# Altium schematic symbol library Standard-Card-Footprints.SchLib: 8 symbols
Pins are listed as number, name and electrical type; pins without a type are passive.

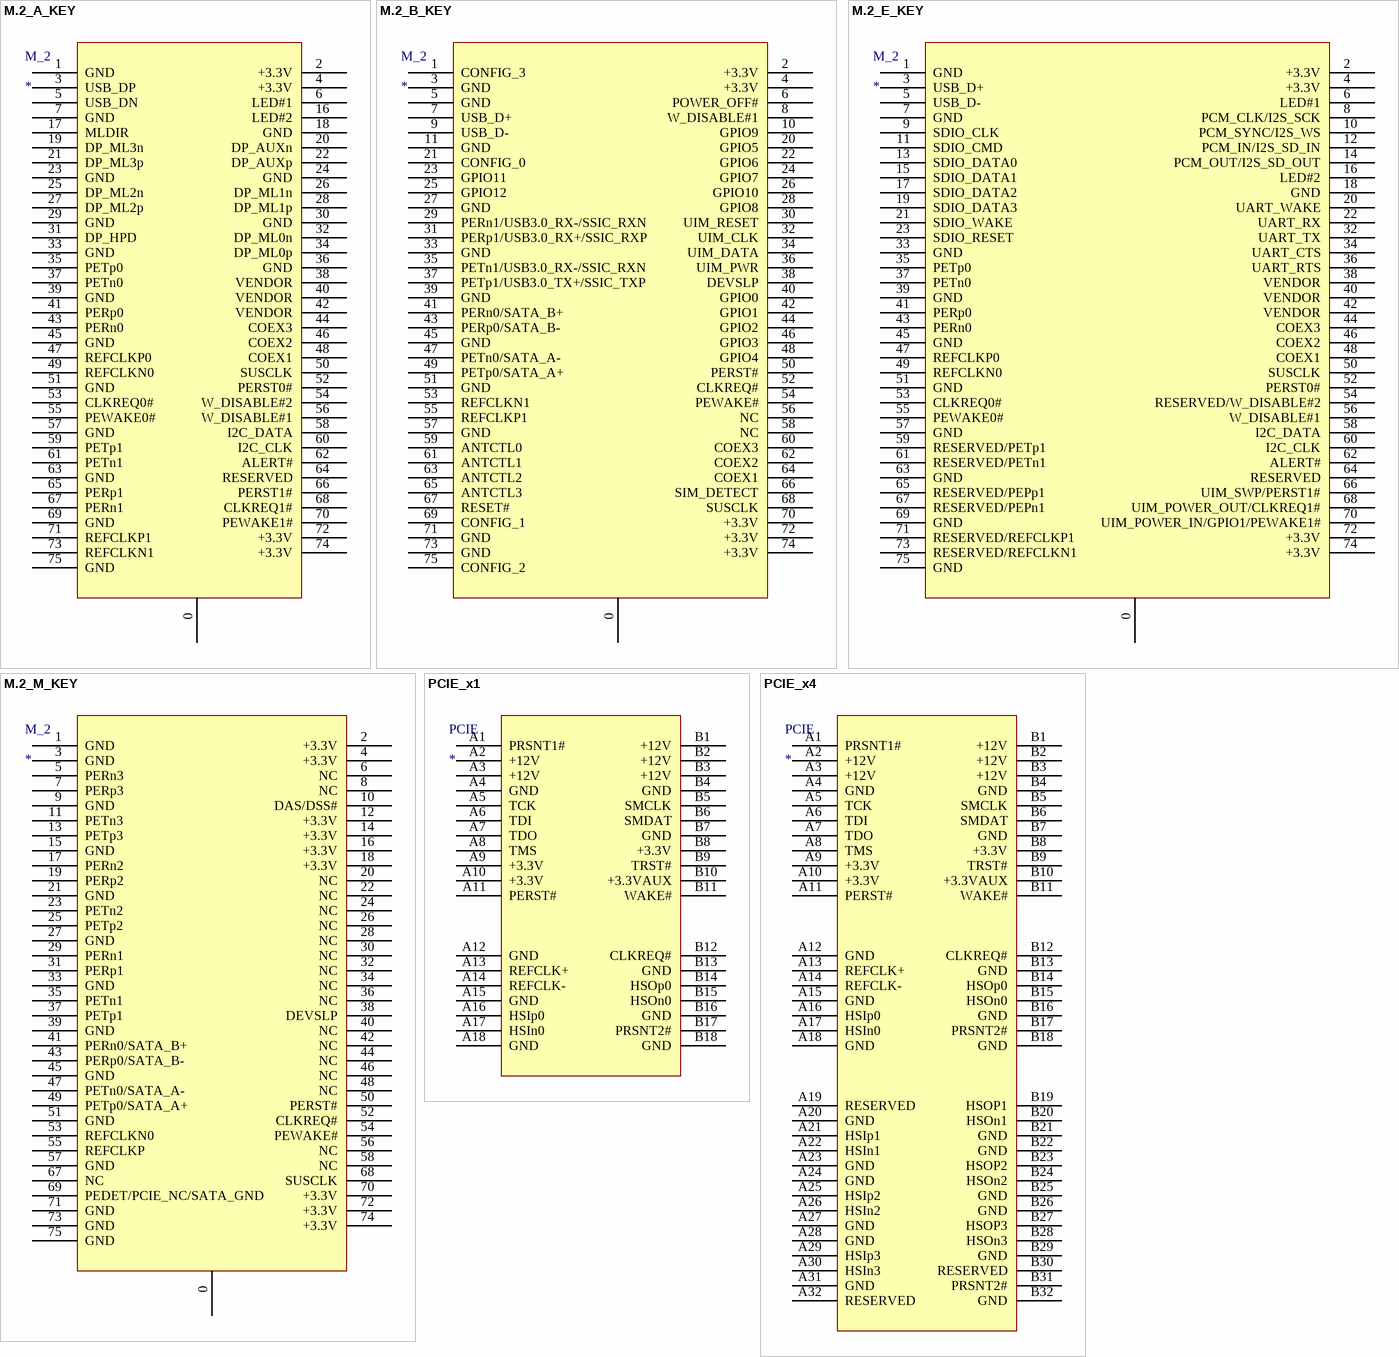
[diagram p0: symbols M.2_A_KEY to PCIE_x4]

## M.2_A_KEY
designator M_2
footprint M.2_A_2230
pins: 0, 1 GND, 2 +3.3V, 3 USB_DP, 4 +3.3V, 5 USB_DN, 6 LED#1, 7 GND, 16 LED#2, 17 MLDIR, 18 GND, 19 DP_ML3n, 20 DP_AUXn, 21 DP_ML3p, 22 DP_AUXp, 23 GND, 24 GND, 25 DP_ML2n, 26 DP_ML1n, 27 DP_ML2p, 28 DP_ML1p, 29 GND, 30 GND, 31 DP_HPD, 32 DP_ML0n, 33 GND, 34 DP_ML0p, 35 PETp0, 36 GND, 37 PETn0, 38 VENDOR, 39 GND, 40 VENDOR, 41 PERp0, 42 VENDOR, 43 PERn0, 44 COEX3, 45 GND, 46 COEX2, 47 REFCLKP0, 48 COEX1, 49 REFCLKN0, 50 SUSCLK, 51 GND, 52 PERST0#, 53 CLKREQ0#, 54 W_DISABLE#2, 55 PEWAKE0#, 56 W_DISABLE#1, 57 GND, 58 I2C_DATA, 59 PETp1, 60 I2C_CLK, 61 PETn1, 62 ALERT#, 63 GND, 64 RESERVED, 65 PERp1, 66 PERST1#, 67 PERn1, 68 CLKREQ1#, 69 GND, 70 PEWAKE1#, 71 REFCLKP1, 72 +3.3V, 73 REFCLKN1, 74 +3.3V, 75 GND

## M.2_B_KEY
designator M_2
footprint M.2_B_2230
pins: 0, 1 CONFIG_3, 2 +3.3V, 3 GND, 4 +3.3V, 5 GND, 6 POWER_OFF#, 7 USB_D+, 8 W_DISABLE#1, 9 USB_D-, 10 GPIO9, 11 GND, 20 GPIO5, 21 CONFIG_0, 22 GPIO6, 23 GPIO11, 24 GPIO7, 25 GPIO12, 26 GPIO10, 27 GND, 28 GPIO8, 29 PERn1/USB3.0_RX-/SSIC_RXN, 30 UIM_RESET, 31 PERp1/USB3.0_RX+/SSIC_RXP, 32 UIM_CLK, 33 GND, 34 UIM_DATA, 35 PETn1/USB3.0_RX-/SSIC_RXN, 36 UIM_PWR, 37 PETp1/USB3.0_TX+/SSIC_TXP, 38 DEVSLP, 39 GND, 40 GPIO0, 41 PERn0/SATA_B+, 42 GPIO1, 43 PERp0/SATA_B-, 44 GPIO2, 45 GND, 46 GPIO3, 47 PETn0/SATA_A-, 48 GPIO4, 49 PETp0/SATA_A+, 50 PERST#, 51 GND, 52 CLKREQ#, 53 REFCLKN1, 54 PEWAKE#, 55 REFCLKP1, 56 NC, 57 GND, 58 NC, 59 ANTCTL0, 60 COEX3, 61 ANTCTL1, 62 COEX2, 63 ANTCTL2, 64 COEX1, 65 ANTCTL3, 66 SIM_DETECT, 67 RESET#, 68 SUSCLK, 69 CONFIG_1, 70 +3.3V, 71 GND, 72 +3.3V, 73 GND, 74 +3.3V, 75 CONFIG_2

## M.2_E_KEY
designator M_2
footprint M.2_E_2230
pins: 0, 1 GND, 2 +3.3V, 3 USB_D+, 4 +3.3V, 5 USB_D-, 6 LED#1, 7 GND, 8 PCM_CLK/I2S_SCK, 9 SDIO_CLK, 10 PCM_SYNC/I2S_WS, 11 SDIO_CMD, 12 PCM_IN/I2S_SD_IN, 13 SDIO_DATA0, 14 PCM_OUT/I2S_SD_OUT, 15 SDIO_DATA1, 16 LED#2, 17 SDIO_DATA2, 18 GND, 19 SDIO_DATA3, 20 UART_WAKE, 21 SDIO_WAKE, 22 UART_RX, 23 SDIO_RESET, 32 UART_TX, 33 GND, 34 UART_CTS, 35 PETp0, 36 UART_RTS, 37 PETn0, 38 VENDOR, 39 GND, 40 VENDOR, 41 PERp0, 42 VENDOR, 43 PERn0, 44 COEX3, 45 GND, 46 COEX2, 47 REFCLKP0, 48 COEX1, 49 REFCLKN0, 50 SUSCLK, 51 GND, 52 PERST0#, 53 CLKREQ0#, 54 RESERVED/W_DISABLE#2, 55 PEWAKE0#, 56 W_DISABLE#1, 57 GND, 58 I2C_DATA, 59 RESERVED/PETp1, 60 I2C_CLK, 61 RESERVED/PETn1, 62 ALERT#, 63 GND, 64 RESERVED, 65 RESERVED/PEPp1, 66 UIM_SWP/PERST1#, 67 RESERVED/PEPn1, 68 UIM_POWER_OUT/CLKREQ1#, 69 GND, 70 UIM_POWER_IN/GPIO1/PEWAKE1#, 71 RESERVED/REFCLKP1, 72 +3.3V, 73 RESERVED/REFCLKN1, 74 +3.3V, 75 GND

## M.2_M_KEY
designator M_2
footprint M.2_M_2242
pins: 0, 1 GND, 2 +3.3V, 3 GND, 4 +3.3V, 5 PERn3, 6 NC, 7 PERp3, 8 NC, 9 GND, 10 DAS/DSS#, 11 PETn3, 12 +3.3V, 13 PETp3, 14 +3.3V, 15 GND, 16 +3.3V, 17 PERn2, 18 +3.3V, 19 PERp2, 20 NC, 21 GND, 22 NC, 23 PETn2, 24 NC, 25 PETp2, 26 NC, 27 GND, 28 NC, 29 PERn1, 30 NC, 31 PERp1, 32 NC, 33 GND, 34 NC, 35 PETn1, 36 NC, 37 PETp1, 38 DEVSLP, 39 GND, 40 NC, 41 PERn0/SATA_B+, 42 NC, 43 PERp0/SATA_B-, 44 NC, 45 GND, 46 NC, 47 PETn0/SATA_A-, 48 NC, 49 PETp0/SATA_A+, 50 PERST#, 51 GND, 52 CLKREQ#, 53 REFCLKN0, 54 PEWAKE#, 55 REFCLKP, 56 NC, 57 GND, 58 NC, 67 NC, 68 SUSCLK, 69 PEDET/PCIE_NC/SATA_GND, 70 +3.3V, 71 GND, 72 +3.3V, 73 GND, 74 +3.3V, 75 GND

## PCIE_x1
designator PCIE
footprint PCIE_X1_FULLLENGTH
footprint PCIE_X1_HALFLENGTH
footprint PCIE_X1_LOWPROFILE
pins: A1 PRSNT1#, A2 +12V, A3 +12V, A4 GND, A5 TCK, A6 TDI, A7 TDO, A8 TMS, A9 +3.3V, A10 +3.3V, A11 PERST#, A12 GND, A13 REFCLK+, A14 REFCLK-, A15 GND, A16 HSIp0, A17 HSIn0, A18 GND, B1 +12V, B2 +12V, B3 +12V, B4 GND, B5 SMCLK, B6 SMDAT, B7 GND, B8 +3.3V, B9 TRST#, B10 +3.3VAUX, B11 WAKE#, B12 CLKREQ#, B13 GND, B14 HSOp0, B15 HSOn0, B16 GND, B17 PRSNT2#, B18 GND

## PCIE_x4
designator PCIE
footprint PCIE_X4_FULLLENGTH
footprint PCIE_X4_HALFLENGTH
footprint PCIE_X4_LOWPROFILE
pins: A1 PRSNT1#, A2 +12V, A3 +12V, A4 GND, A5 TCK, A6 TDI, A7 TDO, A8 TMS, A9 +3.3V, A10 +3.3V, A11 PERST#, A12 GND, A13 REFCLK+, A14 REFCLK-, A15 GND, A16 HSIp0, A17 HSIn0, A18 GND, A19 RESERVED, A20 GND, A21 HSIp1, A22 HSIn1, A23 GND, A24 GND, A25 HSIp2, A26 HSIn2, A27 GND, A28 GND, A29 HSIp3, A30 HSIn3, A31 GND, A32 RESERVED, B1 +12V, B2 +12V, B3 +12V, B4 GND, B5 SMCLK, B6 SMDAT, B7 GND, B8 +3.3V, B9 TRST#, B10 +3.3VAUX, B11 WAKE#, B12 CLKREQ#, B13 GND, B14 HSOp0, B15 HSOn0, B16 GND, B17 PRSNT2#, B18 GND, B19 HSOP1, B20 HSOn1, B21 GND, B22 GND, B23 HSOP2, B24 HSOn2, B25 GND, B26 GND, B27 HSOP3, B28 HSOn3, B29 GND, B30 RESERVED, B31 PRSNT2#, B32 GND

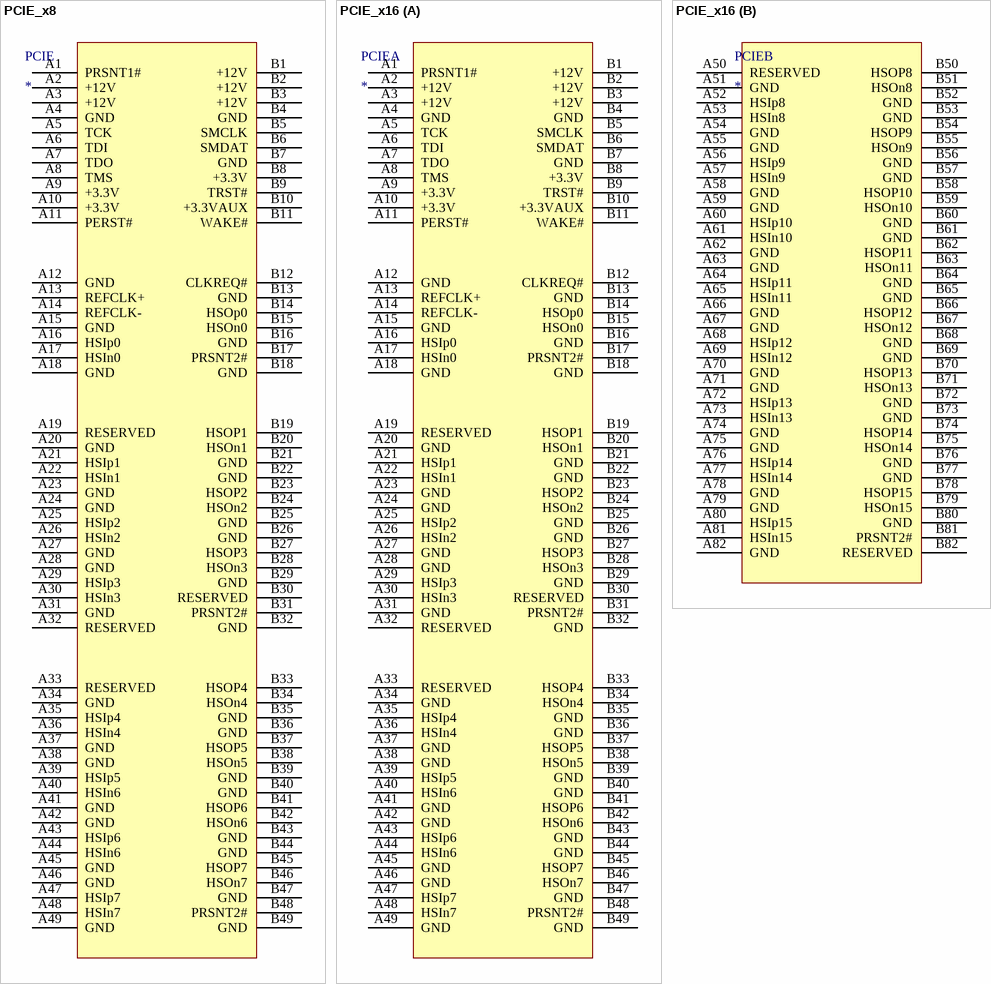
[diagram p1: symbols PCIE_x8 to PCIE_x16]

## PCIE_x8
designator PCIE
footprint PCIE_X8_FULLLENGTH
footprint PCIE_X8_HALFLENGTH
footprint PCIE_X8_LOWPROFILE
pins: A1 PRSNT1#, A2 +12V, A3 +12V, A4 GND, A5 TCK, A6 TDI, A7 TDO, A8 TMS, A9 +3.3V, A10 +3.3V, A11 PERST#, A12 GND, A13 REFCLK+, A14 REFCLK-, A15 GND, A16 HSIp0, A17 HSIn0, A18 GND, A19 RESERVED, A20 GND, A21 HSIp1, A22 HSIn1, A23 GND, A24 GND, A25 HSIp2, A26 HSIn2, A27 GND, A28 GND, A29 HSIp3, A30 HSIn3, A31 GND, A32 RESERVED, A33 RESERVED, A34 GND, A35 HSIp4, A36 HSIn4, A37 GND, A38 GND, A39 HSIp5, A40 HSIn6, A41 GND, A42 GND, A43 HSIp6, A44 HSIn6, A45 GND, A46 GND, A47 HSIp7, A48 HSIn7, A49 GND, B1 +12V, B2 +12V, B3 +12V, B4 GND, B5 SMCLK, B6 SMDAT, B7 GND, B8 +3.3V, B9 TRST#, B10 +3.3VAUX, B11 WAKE#, B12 CLKREQ#, B13 GND, B14 HSOp0, B15 HSOn0, B16 GND, B17 PRSNT2#, B18 GND, B19 HSOP1, B20 HSOn1, B21 GND, B22 GND, B23 HSOP2, B24 HSOn2, B25 GND, B26 GND, B27 HSOP3, B28 HSOn3, B29 GND, B30 RESERVED, B31 PRSNT2#, B32 GND, B33 HSOP4, B34 HSOn4, B35 GND, B36 GND, B37 HSOP5, B38 HSOn5, B39 GND, B40 GND, B41 HSOP6, B42 HSOn6, B43 GND, B44 GND, B45 HSOP7, B46 HSOn7, B47 GND, B48 PRSNT2#, B49 GND

## PCIE_x16
designator PCIE
footprint PCIE_X16_FULLLENGTH
footprint PCIE_X16_HALFLENGTH
footprint PCIE_X16_LOWPROFILE
part A pins: A1 PRSNT1#, A2 +12V, A3 +12V, A4 GND, A5 TCK, A6 TDI, A7 TDO, A8 TMS, A9 +3.3V, A10 +3.3V, A11 PERST#, A12 GND, A13 REFCLK+, A14 REFCLK-, A15 GND, A16 HSIp0, A17 HSIn0, A18 GND, A19 RESERVED, A20 GND, A21 HSIp1, A22 HSIn1, A23 GND, A24 GND, A25 HSIp2, A26 HSIn2, A27 GND, A28 GND, A29 HSIp3, A30 HSIn3, A31 GND, A32 RESERVED, A33 RESERVED, A34 GND, A35 HSIp4, A36 HSIn4, A37 GND, A38 GND, A39 HSIp5, A40 HSIn6, A41 GND, A42 GND, A43 HSIp6, A44 HSIn6, A45 GND, A46 GND, A47 HSIp7, A48 HSIn7, A49 GND, B1 +12V, B2 +12V, B3 +12V, B4 GND, B5 SMCLK, B6 SMDAT, B7 GND, B8 +3.3V, B9 TRST#, B10 +3.3VAUX, B11 WAKE#, B12 CLKREQ#, B13 GND, B14 HSOp0, B15 HSOn0, B16 GND, B17 PRSNT2#, B18 GND, B19 HSOP1, B20 HSOn1, B21 GND, B22 GND, B23 HSOP2, B24 HSOn2, B25 GND, B26 GND, B27 HSOP3, B28 HSOn3, B29 GND, B30 RESERVED, B31 PRSNT2#, B32 GND, B33 HSOP4, B34 HSOn4, B35 GND, B36 GND, B37 HSOP5, B38 HSOn5, B39 GND, B40 GND, B41 HSOP6, B42 HSOn6, B43 GND, B44 GND, B45 HSOP7, B46 HSOn7, B47 GND, B48 PRSNT2#, B49 GND
part B pins: A50 RESERVED, A51 GND, A52 HSIp8, A53 HSIn8, A54 GND, A55 GND, A56 HSIp9, A57 HSIn9, A58 GND, A59 GND, A60 HSIp10, A61 HSIn10, A62 GND, A63 GND, A64 HSIp11, A65 HSIn11, A66 GND, A67 GND, A68 HSIp12, A69 HSIn12, A70 GND, A71 GND, A72 HSIp13, A73 HSIn13, A74 GND, A75 GND, A76 HSIp14, A77 HSIn14, A78 GND, A79 GND, A80 HSIp15, A81 HSIn15, A82 GND, B50 HSOP8, B51 HSOn8, B52 GND, B53 GND, B54 HSOP9, B55 HSOn9, B56 GND, B57 GND, B58 HSOP10, B59 HSOn10, B60 GND, B61 GND, B62 HSOP11, B63 HSOn11, B64 GND, B65 GND, B66 HSOP12, B67 HSOn12, B68 GND, B69 GND, B70 HSOP13, B71 HSOn13, B72 GND, B73 GND, B74 HSOP14, B75 HSOn14, B76 GND, B77 GND, B78 HSOP15, B79 HSOn15, B80 GND, B81 PRSNT2#, B82 RESERVED